# EAGLE library part IR3895 (library MikeLib)
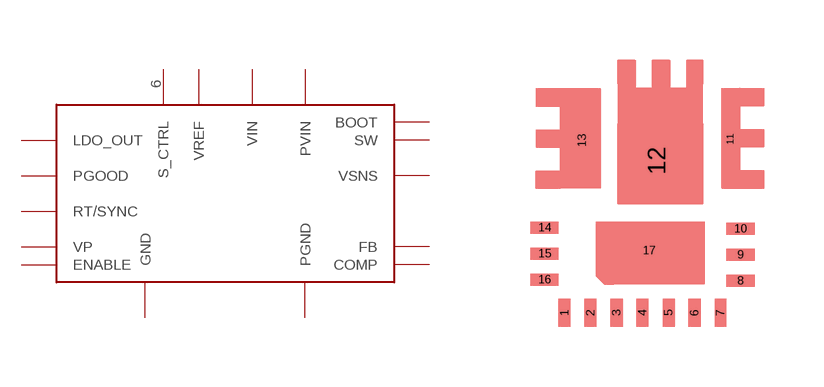
[diagram p1: symbol with the pads of PQFN; footprint PQFN]

Designator prefix -

## IR3895  [PQFN]
1  FB  in
2  VREF  pwr
3  COMP  out
4  GND  pwr
5  RT/SYNC  in
6  S_CTRL  in
7  PGOOD  pwr
8  VSNS  in
9  VIN  pwr
10  LDO_OUT  pwr
11  PGND  pwr
12  SW
13  PVIN  pwr
14  BOOT  out
15  ENABLE  in
16  VP  in
17  GND  pwr

## Footprint PQFN (pad centres in mm)
smd 0.3 x 0.7: 1 -2.154,-3.385; 2 -1.504,-3.385; 3 -0.854,-3.385; 4 -0.204,-3.385; 5 0.446,-3.385; 6 1.096,-3.385; 7 1.746,-3.385; 13 -1.717,0.921
smd 0.7 x 0.3: 8 2.246,-2.584; 9 2.246,-1.934; 10 2.246,-1.284; 14 -2.654,-1.255; 15 -2.654,-1.905; 16 -2.654,-2.555; 17 -0.039,-1.828
smd 0.25 x 1.27: 11 1.982,0.952
smd 0.635 x 1.27: 12 0.149,0.415